# Altium schematic symbol library MOD-MAX-M8C-0-10.SchLib: 1 symbol
Pins are listed as number, name and electrical type; pins without a type are passive.

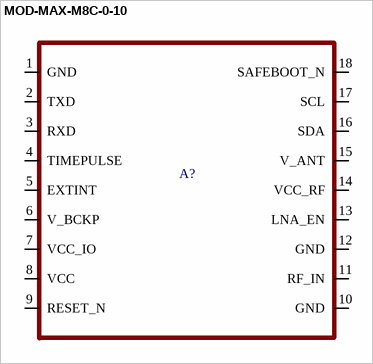
[diagram p0: symbol MOD-MAX-M8C-0-10]

## MOD-MAX-M8C-0-10
designator A?
pins: 1 GND, 2 TXD, 3 RXD, 4 TIMEPULSE, 5 EXTINT, 6 V_BCKP, 7 VCC_IO, 8 VCC, 9 RESET_N, 10 GND, 11 RF_IN, 12 GND, 13 LNA_EN, 14 VCC_RF, 15 V_ANT, 16 SDA, 17 SCL, 18 SAFEBOOT_N